# Altium schematic symbol library Schlib1.SchLib: 1 symbol
Pins are listed as number, name and electrical type; pins without a type are passive.

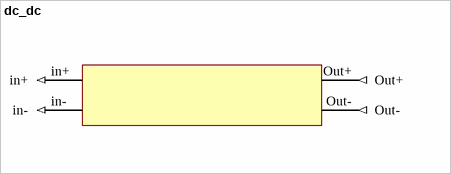
[diagram p0: symbol dc_dc]

## dc_dc
designator dc_dc
pins: in+ (in), in- (in), Out+ (out), Out- (out)